# EAGLE library part CON-AMP_MTA06-100 (library RN42__BoB)
AMP connector
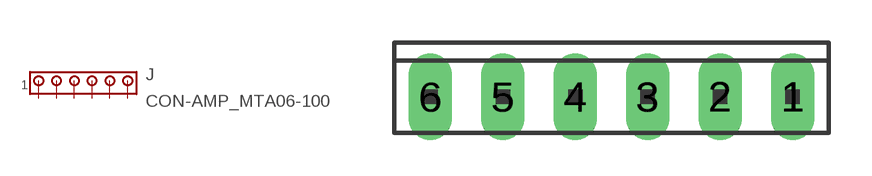
[diagram p1: symbol with the pads of CON-AMP_10X06MTA; footprint CON-AMP_10X06MTA]

Designator prefix J

## CON-AMP_MTA06-100  [CON-AMP_10X06MTA]
1  6  pas
2  5  pas
3  4  pas
4  3  pas
5  2  pas
6  1  pas

## Footprint CON-AMP_10X06MTA (pad centres in mm)
AMP MTA connector Source: http://ecommas.tycoelectronics.com .. ENG_CD_640456_W.pdf
drill 1.016 long: 1 6.35,0; 2 3.81,0; 3 1.27,0; 4 -1.27,0; 5 -3.81,0; 6 -6.35,0